# EAGLE library part SRS (library dk30a)
0.5W DC-DC converter regulated single output Specifications can be viewed at http://computronics.com.au/meanwell/slw/
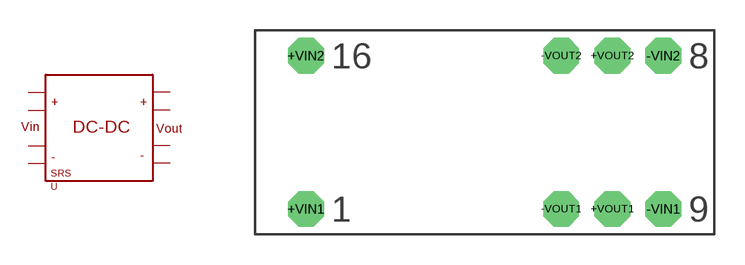
[diagram p3: symbol with the pads of SRS; footprint SRS]

Designator prefix -

## SRS"  [SRS]
+VIN1  +VIN1  pwr
+VIN2  +VIN2  pwr
+VOUT1  +VOUT1  pwr
+VOUT2  +VOUT2  pwr
-VIN1  -VIN1  pwr
-VIN2  -VIN2  pwr
-VOUT1  -VOUT1  pwr
-VOUT2  -VOUT2  pwr

## Footprint SRS (pad centres in mm)
DC-DC Converter module
drill 0.813 pad 1.778 octagon: +VIN1 -10.16,-3.81; +VIN2 -10.16,3.81; +VOUT1 5.08,-3.81; +VOUT2 5.08,3.81; -VIN1 7.62,-3.81; -VIN2 7.62,3.81; -VOUT1 2.54,-3.81; -VOUT2 2.54,3.81